# Altium schematic symbol library WS-DESV.SchLib: 1 symbol
Pins are listed as number, name and electrical type; pins without a type are passive.

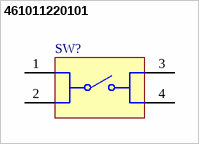
[diagram p0: symbol 461011220101]

## 461011220101
designator SW?  (value not drawn)
WS-DESV SMT Detector Switch 4.7x3.8 mm, 60g, SPST-NO; Manufacturer: Wurth Elektronik; Manufacturer Part Number: 461011220101; Category: Detector Switch; Match Code: WS-DESV; ComponentLink1Description: Website Link; ComponentLink1URL: https://www.we-online.com; ComponentLink2Description: Datasheet Link; ComponentLink2URL: https://www.we-online.com/components/products/datasheet/461011220101; Mount: Surface Mount; Operating Temperature Min: -40degC; Operating Temperature Max: 85degC; Packaging: Tape and Reel; Length: 4.7mm; Width: 3.8mm; Height: 3.8mm; Operation Force: 60g; Schematic: SPST-NO
footprint 461011220101
pins: 1, 2, 3, 4